# EAGLE library part DF12-60DP (library ELL-i-Connectors)
Hirose DF12 60-pin female (header) 0.5 mm pitch SMT board-to-board connector Datasheet <https://www.sparkfun.com/datasheets/Cellular%20Modules/ADH8066connector.pdf> (from SparkFun)
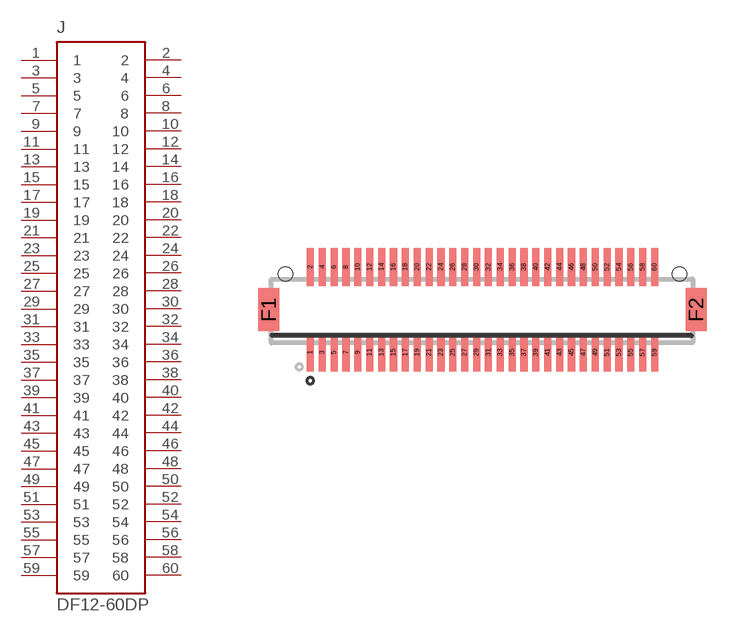
[diagram p2: symbol with the pads of DF12(4.0)-60DP-0.5V; footprint DF12(4.0)-60DP-0.5V]

Designator prefix J

## DF12-60DP  [DF12(4.0)-60DP-0.5V]
1  1
2  2
3  3
4  4
5  5
6  6
7  7
8  8
9  9
10  10
11  11
12  12
13  13
14  14
15  15
16  16
17  17
18  18
19  19
20  20
21  21
22  22
23  23
24  24
25  25
26  26
27  27
28  28
29  29
30  30
31  31
32  32
33  33
34  34
35  35
36  36
37  37
38  38
39  39
40  40
41  41
42  42
43  43
44  44
45  45
46  46
47  47
48  48
49  49
50  50
51  51
52  52
53  53
54  54
55  55
56  56
57  57
58  58
59  59
60  60

## Footprint DF12(4.0)-60DP-0.5V (pad centres in mm)
Hirose DF12 60-pin female (header) pattern with metal fitting and boss Datasheet <https://www.sparkfun.com/datasheets/Cellular%20Modules/ADH8066connector.pdf> (from SparkFun)
smd 0.3 x 1.6: 1 -7.25,-1.8; 2 -7.25,1.8; 3 -6.75,-1.8; 4 -6.75,1.8; 5 -6.25,-1.8; 6 -6.25,1.8; 7 -5.75,-1.8; 8 -5.75,1.8; 9 -5.25,-1.8; 10 -5.25,1.8; 11 -4.75,-1.8; 12 -4.75,1.8; 13 -4.25,-1.8; 14 -4.25,1.8; 15 -3.75,-1.8; 16 -3.75,1.8; 17 -3.25,-1.8; 18 -3.25,1.8; 19 -2.75,-1.8; 20 -2.75,1.8; 21 -2.25,-1.8; 22 -2.25,1.8; 23 -1.75,-1.8; 24 -1.75,1.8; 25 -1.25,-1.8; 26 -1.25,1.8; 27 -0.75,-1.8; 28 -0.75,1.8; 29 -0.25,-1.8; 30 -0.25,1.8; 31 0.25,-1.8; 32 0.25,1.8; 33 0.75,-1.8; 34 0.75,1.8; 35 1.25,-1.8; 36 1.25,1.8; 37 1.75,-1.8; 38 1.75,1.8; 39 2.25,-1.8; 40 2.25,1.8; 41 2.75,-1.8; 42 2.75,1.8; 43 3.25,-1.8; 44 3.25,1.8; 45 3.75,-1.8; 46 3.75,1.8; 47 4.25,-1.8; 48 4.25,1.8; 49 4.75,-1.8; 50 4.75,1.8; 51 5.25,-1.8; 52 5.25,1.8; 53 5.75,-1.8; 54 5.75,1.8; 55 6.25,-1.8; 56 6.25,1.8; 57 6.75,-1.8; 58 6.75,1.8; 59 7.25,-1.8; 60 7.25,1.8
smd 0.9 x 1.8: F1 -9,0; F2 9,0
hole 0.6 at -8.3,1.5
hole 0.6 at 8.3,1.5